# EAGLE library part TLC59116-Q1 (library TLC59116)
TLC59116-Q1 LED Treiber mit I2C, 16 Channel, Texas Instruments
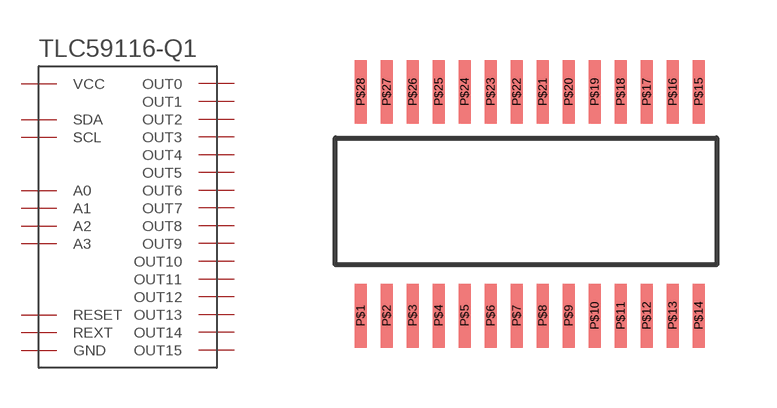
[diagram p0: symbol with the pads of TSSOP28; footprint TSSOP28]

Designator prefix -

## TLC59116-Q1  [TSSOP28]
P$1  REXT
P$2  A0
P$3  A1
P$4  A2
P$5  A3
P$6  OUT0
P$7  OUT1
P$8  OUT2
P$9  OUT3
P$10  GND
P$11  OUT4
P$12  OUT5
P$13  OUT6
P$14  OUT7
P$15  OUT8
P$16  OUT9
P$17  OUT10
P$18  OUT11
P$19  GND
P$20  OUT12
P$21  OUT13
P$22  OUT14
P$23  OUT15
P$24  GND
P$25  RESET
P$26  SCL
P$27  SDA
P$28  VCC

## Footprint TSSOP28 (pad centres in mm)
smd 0.3 x 1.6: P$1 0,0; P$2 0.65,0; P$3 1.3,0; P$4 1.95,0; P$5 2.6,0; P$6 3.25,0; P$7 3.9,0; P$8 4.55,0; P$9 5.2,0; P$10 5.85,0; P$11 6.5,0; P$12 7.15,0; P$13 7.8,0; P$14 8.45,0; P$15 8.45,5.6; P$16 7.8,5.6; P$17 7.15,5.6; P$18 6.5,5.6; P$19 5.85,5.6; P$20 5.2,5.6; P$21 4.55,5.6; P$22 3.9,5.6; P$23 3.25,5.6; P$24 2.6,5.6; P$25 1.95,5.6; P$26 1.3,5.6; P$27 0.65,5.6; P$28 0,5.6